# EAGLE library part MIC5319 (library micrel)
LDO Regulator
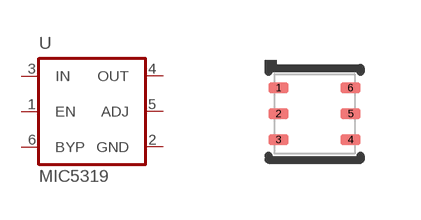
[diagram p13: symbol with the pads of MLF6; footprint MLF6]

Designator prefix U

## MIC5319ML  [MLF6]
1  EN  in
2  GND  pas
3  IN  in
4  OUT  pas
5  ADJ  pas
6  BYP  pas

## Footprint MLF6 (pad centres in mm)
MLF 6 body 2 x 2 mm
smd 0.5 x 0.28: 1 -0.9,0.65; 2 -0.9,0; 3 -0.9,-0.65; 4 0.9,-0.65; 5 0.9,0; 6 0.9,0.65